# EAGLE library part RGB_LED (library LEDs)
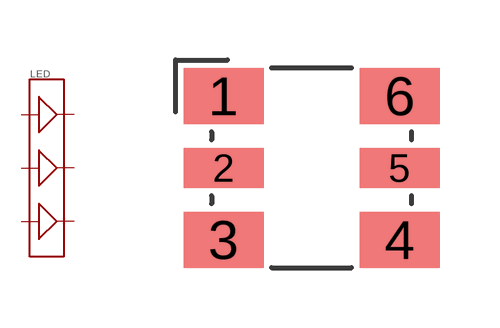
[diagram p0: symbol with the pads of QBLP679E-RGB; footprint QBLP679E-RGB]

Designator prefix LED

## RGB_LED  [QBLP679E-RGB]
1  1
2  2
3  3
4  4
5  5
6  6

## Footprint QBLP679E-RGB (pad centres in mm)
smd 2 x 1.4: 1 -2.2,1.8; 3 -2.2,-1.8; 4 2.2,-1.8; 6 2.2,1.8
smd 2 x 1: 2 -2.2,0; 5 2.2,0